# Altium footprint library STSPIN220.PcbLib: 1 footprints
Each footprint in its own frame and in the unit in brackets; x right, y up, seen from the top. Pads: shape width x height; smd on the part's side, far side on the other; paste and mask are expansions set on the pad; w line width, h text height; cw(c..) or ccw(c..) is an arc to the next point about the centre after c.
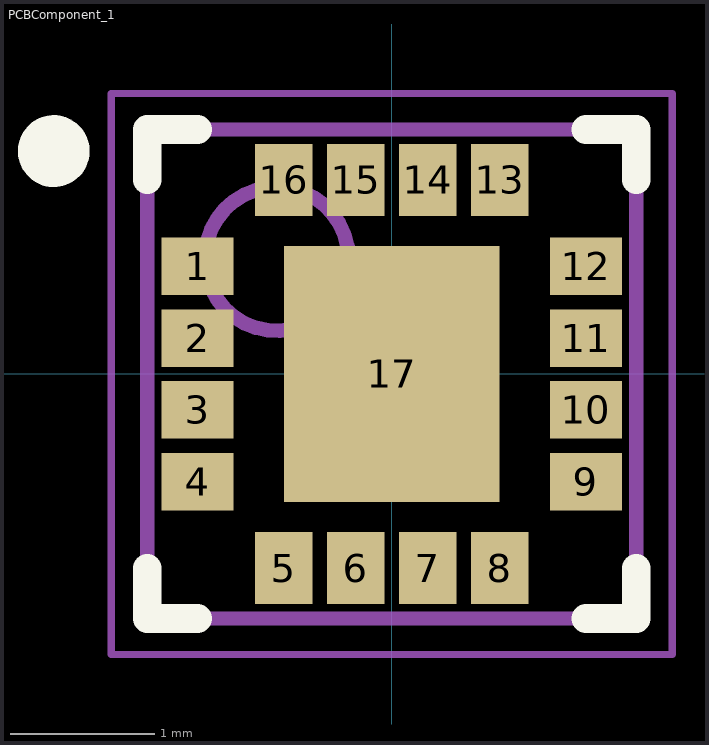
[diagram p0: the footprint, top view; thin cyan lines are the x and y axes]

## PCBComponent_1 [mm]
pads (17):
  rect 0.5x0.4 smd: 1(-1.35,0.75) 2(-1.35,0.25) 3(-1.35,-0.25) 4(-1.35,-0.75) 9(1.35,-0.75) 10(1.35,-0.25) 11(1.35,0.25) 12(1.35,0.75)
  rect 0.4x0.5 smd: 5(-0.75,-1.35) 6(-0.25,-1.35) 7(0.25,-1.35) 8(0.75,-1.35) 13(0.75,1.35) 14(0.25,1.35) 15(-0.25,1.35) 16(-0.75,1.35)
  rect 1.5x1.78 smd: 17(0,0)
Top Overlay:
  circle w0.25: c-2.35,1.55 r0.125
  lines w0.2: -1.7,-1.35 -1.7,-1.7 -1.35,-1.7 ; -1.7,1.35 -1.7,1.7 -1.35,1.7 ; 1.35,-1.7 1.7,-1.7 1.7,-1.35 ; 1.35,1.7 1.7,1.7 1.7,1.35
Mechanical 13:
  circle w0.1: c-0.8,0.8 r0.5
  lines w0.1: -1.7,-1.7 1.7,-1.7 1.7,1.7 -1.7,1.7 -1.7,-1.7
Mechanical 15:
  lines w0.05: -1.95,-1.95 1.95,-1.95 1.95,1.95 -1.95,1.95 -1.95,-1.95
  lines w0.1: -0.5,0 0.5,0 ; 0,-0.5 0,0.5
3D body: height 1, standoff 0.05, extent -1.7,-1.7 1.7,1.7